# Altium schematic symbol library Connectors.SchLib: 55 symbols
Pins are listed as number, name and electrical type; pins without a type are passive.

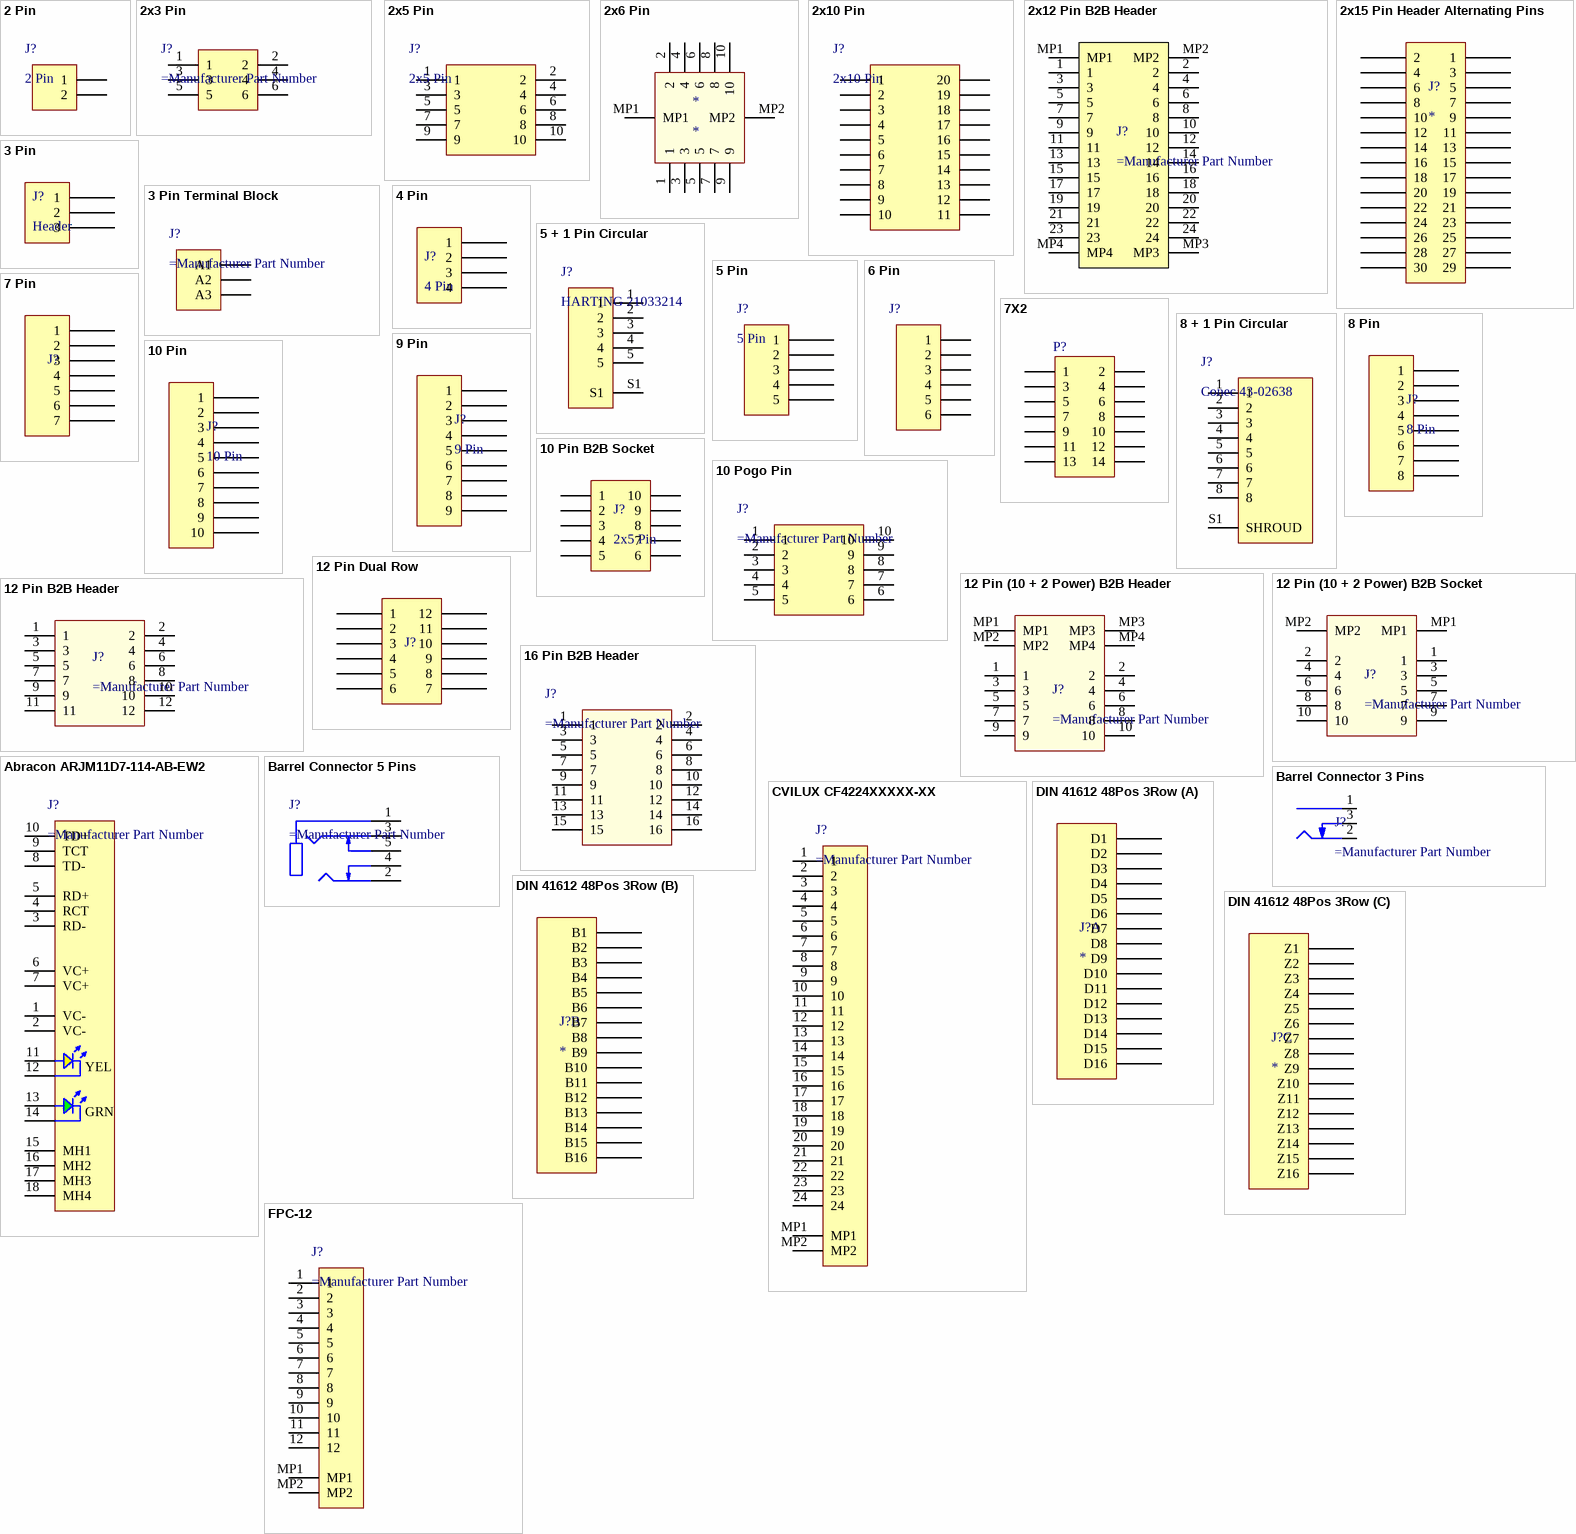
[diagram p0: symbols 2 Pin to FPC-12]

## 2 Pin
designator J?
footprint TE 282834-2
footprint JST B2B-PH-K
footprint TE 4DB-P108-02 (Assembly, Dual Barrier 4DB P108)
footprint TE NC6-P108-02
footprint FCI 06-381-2PIN (FCI Pluggable Terminal Block)
footprint JST XH B2B-XH-A
footprint MOLEX KK 0022272021
footprint MOLEX SDA-70553-2PIN (SL Right angle header with latch, 0.100 centres, SDA-70553)
footprint MOLEX SDA-70555-2PIN (SL Right Angle Header W/LAtch & Trip-Pegs 2.54mm Centres)
footprint SAMTEC SSW-102-03-T-S
footprint JST BM02B-PASS-TF (JST PA Series 2mm pitch, top entry connector)
footprint JST SM02B-PASS-TB (JST PA Series 2mm pitch, side entry connector)
footprint JST BM02B-SRSS-TB (1.0mm pitch/Disconnectable Crimp style connector)
footprint JST SM02B-GHS-TB (1.25mm pitch/Disconnectable Crimp style connectors)
footprint JST BM02B-GHS-TBT (JST GH Series 1.25mm pitch, 4 pin top entry connector)
footprint JST BM02B-SRSS-TB (1.0mm pitch/Disconnectable Crimp style connector)
footprint JST BM02B-SURS-TF (1.0mm pitch/Disconnectable Crimp style connector)
footprint JST SM02B-SRSS-TB (1.0mm pitch/Disconnectable Crimp style connector)
footprint JST SM02B-SURS-TF (1.0mm pitch/Disconnectable Crimp style connector)
footprint WURTH 691508110302
footprint HIROSE DF13-2P-1.25H (DF13 Series 1.25mm pitch miniature crimping connector single row)
footprint HIROSE DF13A-2P-1.25H (DF13 Series 1.25mm pitch miniature crimping connector single row)
footprint JST PH-2-THM-RA
pins: 1, 2

## 2x3 Pin
designator J?
footprint CUI TBL009V-254-03
pins: 1, 2, 3, 4, 5, 6

## 2x5 Pin
designator J?
footprint SAMTEC FTSH-105-01-X-DV-K-X
pins: 1, 2, 3, 4, 5, 6, 7, 8, 9, 10

## 2x6 Pin
designator *
pins: 1, 2, 3, 4, 5, 6, 7, 8, 9, 10, MP1, MP2

## 2x10 Pin
designator J?
pins: 1, 2, 3, 4, 5, 6, 7, 8, 9, 10, 11, 12, 13, 14, 15, 16, 17, 18, 19, 20

## 2x12 Pin B2B Header
designator J?
Board to Board Connector
footprint HIROSE BM14B(0.8)-24DS-0.4V(53)
pins: 1, 2, 3, 4, 5, 6, 7, 8, 9, 10, 11, 12, 13, 14, 15, 16, 17, 18, 19, 20, 21, 22, 23, 24, MP1, MP2, MP3, MP4

## 2x15 Pin Header Alternating Pins
designator J?
pins: 1, 2, 3, 4, 5, 6, 7, 8, 9, 10, 11, 12, 13, 14, 15, 16, 17, 18, 19, 20, 21, 22, 23, 24, 25, 26, 27, 28, 29, 30

## 3 Pin
designator J?, comment Header
footprint TE 282834-3
footprint JST B3B-PH-K
footprint TE 4DB-P108-03 (Assembly, Dual Barrier 4DB P108)
footprint TE NC6-P108-03
footprint FCI 06-381-3PIN (FCI Pluggable Terminal Block)
footprint JST XH B3B-XH-A
footprint MOLEX KK 0022272031
footprint SULLINS NPPN031BFCN
footprint MOLEX SDA-70553-3PIN (SL Right Angle Header W/LAtch & Trip-Pegs 2.54mm Centres)
footprint MOLEX SDA-70555-3PIN (SL Right Angle Header W/LAtch & Trip-Pegs 2.54mm Centres)
footprint SAMTEC SSW-103-03-T-S
pins: 1, 2, 3

## 3 Pin Terminal Block
designator J?
footprint Weidmüller 1825650000 (LSF  LSF-SMT 3.50/03/180 3.5)
pins: A1, A2, A3

## 4 Pin
designator J?
footprint Pin Header 4x1 Female 1.27
footprint AVX 00-9159-004-061-916 (PEN ENDED CARD EDGE 4 POS)
pins: 1, 2, 3, 4

## 5 + 1 Pin Circular
designator J?, comment HARTING 21033214
Circular connectors
footprint HARTING 21033214501 (Circular connectors M12)
pins: 1, 2, 3, 4, 5, S1

## 5 Pin
designator J?
footprint FCI 06-381-5PIN (FCI Pluggable Terminal Block)
footprint Pin Header 5x1 Female 1.27
footprint PHOENIX 172882
pins: 1, 2, 3, 4, 5

## 6 Pin
designator J?
footprint FPC-6 (6 way 0.5 pitch FPC Connector)
footprint FCI 06-381-6PIN (FCI Pluggable Terminal Block)
footprint HIROSE DF13-6P-1.25H (DF13 Series 1.25mm pitch miniature crimping connector single row)
footprint HIROSE DF13A-6P-1.25H (DF13 Series 1.25mm pitch miniature crimping connector single row)
footprint JST B6B-PH-K
footprint JST BM06B-PASS-TF (JST PA Series 2mm pitch, top entry connector)
footprint JST BM06B-SRSS-TB (1.0mm pitch/Disconnectable Crimp style connector)
footprint JST SM06B-GHS-TB (1.25mm pitch/Disconnectable Crimp style connectors)
footprint JST SM06B-PASS-TB (JST PA Series 2mm pitch, side entry connector)
footprint JST SM06B-SRSS-TB (1.0mm pitch/Disconnectable Crimp style connector)
footprint JST SM06B-SURS-TF (1.0mm pitch/Disconnectable Crimp style connector)
footprint JST XH B6B-XH-A
footprint MOLEX KK 0022272061
footprint MOLEX SDA-70553-6PIN (SL Right angle header with latch, 0.100 centres, SDA-70553)
footprint MOLEX SDA-70555-6PIN (SL Right Angle Header W/LAtch & Trip-Pegs 2.54mm Centres)
footprint SAMTEC SSW-106-03-T-S
footprint SULLINS NPPN061BFCN
footprint TE 282834-6
footprint WURTH 691508110306
footprint Pin Header 6x1 Female 1.27
footprint Pin Header 6x1 Female 2.54
footprint TE 19542893
pins: 1, 2, 3, 4, 5, 6

## 7 Pin
designator J?
pins: 1, 2, 3, 4, 5, 6, 7

## 7X2
designator P?  (value not drawn)
Header, 7-Pin, Dual row; Satıcı: Digikey; Birim Fiyat: * USD; Depo Kodu: *; Paket: *; Satın Alma Linki: *; Datasheet: *; Value: *
footprint CNC Tech 3220-14-0300-00
pins: 1, 2, 3, 4, 5, 6, 7, 8, 9, 10, 11, 12, 13, 14

## 8 + 1 Pin Circular
designator J?, comment Conec 43-02638
Circular Connector
footprint Conec 43-02638
pins: 1, 2, 3, 4, 5, 6, 7, 8, S1 SHROUD

## 8 Pin
designator J?
footprint FCI 06-381-8PIN (FCI Pluggable Terminal Block)
pins: 1, 2, 3, 4, 5, 6, 7, 8

## 9 Pin
designator J?
pins: 1, 2, 3, 4, 5, 6, 7, 8, 9

## 10 Pin
designator J?
pins: 1, 2, 3, 4, 5, 6, 7, 8, 9, 10

## 10 Pin B2B Socket
designator J?, comment 2x5 Pin
Board to Board Connector
footprint Hirose DF23C-10DS (0.5mm Pitch Low-Profile Board-to-Board/Board-to-FPC Connectors)
pins: 1, 2, 3, 4, 5, 6, 7, 8, 9, 10

## 10 Pogo Pin
designator J?
Connector
footprint Tag-Connect TC2050-IDC (10 pins pogo pin)
pins: 1, 2, 3, 4, 5, 6, 7, 8, 9, 10

## 12 Pin (10 + 2 Power) B2B Header
designator J?
Board to Board Connector
footprint HIROSE BM2410DP
pins: 1, 2, 3, 4, 5, 6, 7, 8, 9, 10, MP1, MP2, MP3, MP4

## 12 Pin (10 + 2 Power) B2B Socket
designator J?
Board to Board Connector
footprint HIROSE BM2410DS
pins: 1, 2, 3, 4, 5, 6, 7, 8, 9, 10, MP1, MP2

## 12 Pin B2B Header
designator J?
Board to Board Connector
footprint MOLEX 0524651271
pins: 1, 2, 3, 4, 5, 6, 7, 8, 9, 10, 11, 12

## 12 Pin Dual Row
designator J?
pins: 1, 2, 3, 4, 5, 6, 7, 8, 9, 10, 11, 12

## 16 Pin B2B Header
designator J?
Board to Board Connector
footprint MOLEX 0524651671
pins: 1, 2, 3, 4, 5, 6, 7, 8, 9, 10, 11, 12, 13, 14, 15, 16

## Abracon ARJM11D7-114-AB-EW2
designator J?
footprint ABRACON ARJM11D7-114-AB-EW2
pins: 1 VC-, 2 VC-, 3 RD-, 4 RCT, 5 RD+, 6 VC+, 7 VC+, 8 TD-, 9 TCT, 10 TD+, 11 LED1_A, 12 LED1_C, 13 LED2_A, 14 LED2_C, 15 MH1, 16 MH2, 17 MH3, 18 MH4
text: YEL; GRN

## Barrel Connector 3 Pins
designator J?
footprint CUI PJ-014D
footprint CUI PJ-014DH-SMT
footprint CUI PJ-040D
footprint CUI PJ-068B-SMT (Mid Mount DC Power Jack)
footprint CUI PJ-069B-SMT (Mid Mount DC Power Jack)
footprint CUI PJ-075-SMT
footprint CUI PJ-102AH (DC Barrel Jack W/ Switch 2.0x5.5)
pins: 1 Centre, 2 Outer, 3 SW

## Barrel Connector 5 Pins
designator J?
3.5 mm, Stereo, Right Angle, Through Hole, Isolated Ground, Audio Jack Connector; MF: CUI Devices; MP: SJ1-3535NG; SnapEDA_Link: https://www.snapeda.com/parts/SJ1-3535NG/CUI%20Devices/view-part/511142/?ref=snap; Value: *; Availability: Unavailable; Price: None; Package: None
footprint CUI SJ1-3535NG
pins: 1, 2, 3, 4, 5

## CVILUX CF4224XXXXX-XX
designator J?
24 Position FFC, FPC Connector Contacts, Top and Bottom 0.020" (0.50mm) Surface Mount, Right Angle
footprint CVILUX CF4224FH0R0
pins: 1, 2, 3, 4, 5, 6, 7, 8, 9, 10, 11, 12, 13, 14, 15, 16, 17, 18, 19, 20, 21, 22, 23, 24, MP1, MP2

## DIN 41612 48Pos 3Row
designator J?
part A pins: D1, D2, D3, D4, D5, D6, D7, D8, D9, D10, D11, D12, D13, D14, D15, D16
part B pins: B1, B2, B3, B4, B5, B6, B7, B8, B9, B10, B11, B12, B13, B14, B15, B16
part C pins: Z1, Z2, Z3, Z4, Z5, Z6, Z7, Z8, Z9, Z10, Z11, Z12, Z13, Z14, Z15, Z16

## FPC-12
designator J?
Connector
footprint HIROSE FH12-12S-1SH
pins: 1, 2, 3, 4, 5, 6, 7, 8, 9, 10, 11, 12, MP1, MP2

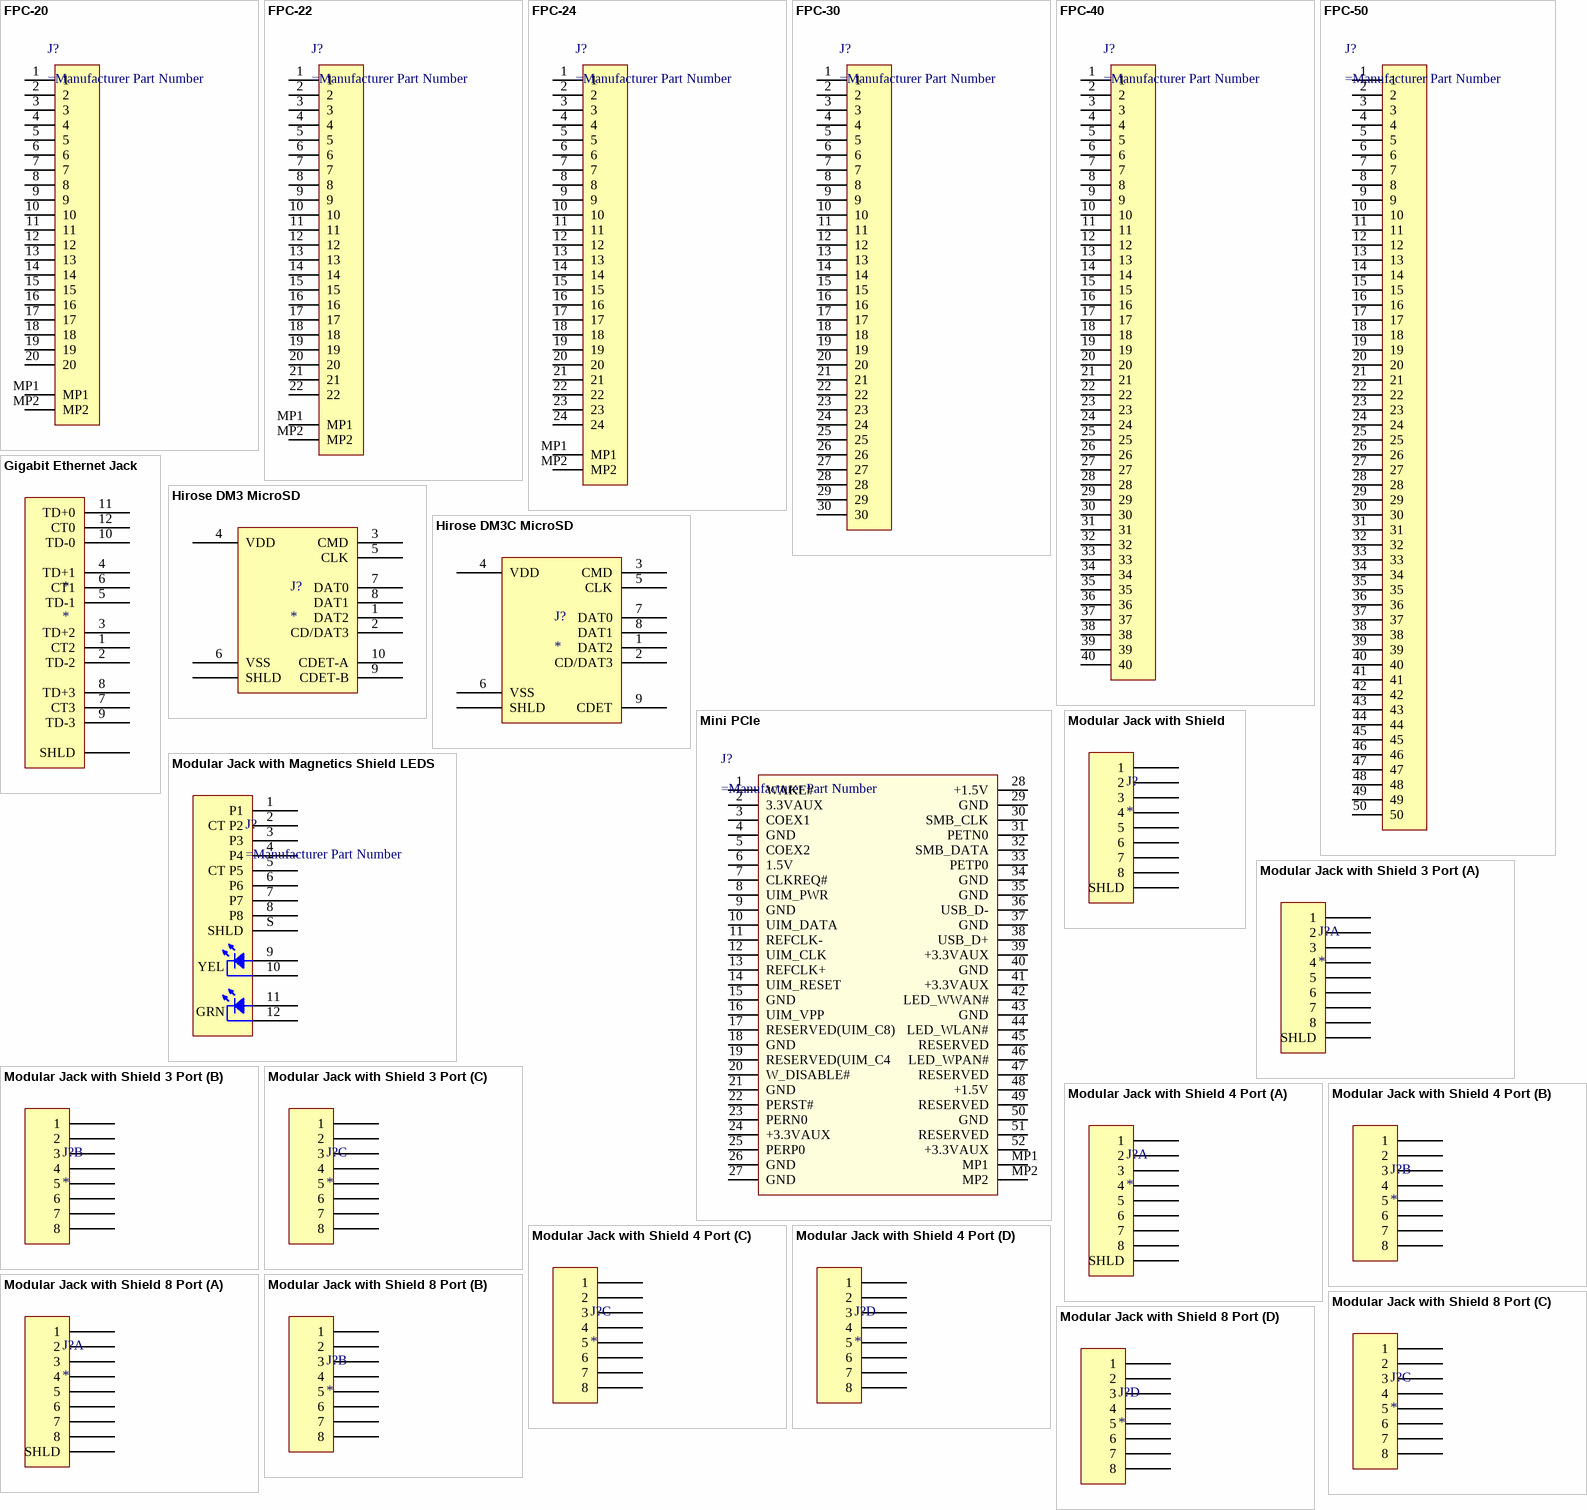
[diagram p1: symbols FPC-20 to Modular Jack with Shield 8 Port]

## FPC-20
designator J?
Connector
footprint fpc-20 (SFV20R2STE1HLF)
pins: 1, 2, 3, 4, 5, 6, 7, 8, 9, 10, 11, 12, 13, 14, 15, 16, 17, 18, 19, 20, MP1, MP2

## FPC-22
designator J?
Connector
footprint fpc-22 (SFV22R-2STE1HLF)
pins: 1, 2, 3, 4, 5, 6, 7, 8, 9, 10, 11, 12, 13, 14, 15, 16, 17, 18, 19, 20, 21, 22, MP1, MP2

## FPC-24
designator J?
Connector
footprint Amphenol SFV24R-1STE1HLF
pins: 1, 2, 3, 4, 5, 6, 7, 8, 9, 10, 11, 12, 13, 14, 15, 16, 17, 18, 19, 20, 21, 22, 23, 24, MP1, MP2

## FPC-30
designator J?
Connector
footprint fpc-30 (30 way 0.5 pitch FPC Connector)
pins: 1, 2, 3, 4, 5, 6, 7, 8, 9, 10, 11, 12, 13, 14, 15, 16, 17, 18, 19, 20, 21, 22, 23, 24, 25, 26, 27, 28, 29, 30

## FPC-40
designator J?
Connector
footprint Amphenol 62684-401100ALF (40 way 0.5 pitch FPC Connector)
pins: 1, 2, 3, 4, 5, 6, 7, 8, 9, 10, 11, 12, 13, 14, 15, 16, 17, 18, 19, 20, 21, 22, 23, 24, 25, 26, 27, 28, 29, 30, 31, 32, 33, 34, 35, 36, 37, 38, 39, 40

## FPC-50
designator J?
Connector
footprint Amphenol 62684-501100ALF (50 way 0.5 pitch FPC Connector)
pins: 1, 2, 3, 4, 5, 6, 7, 8, 9, 10, 11, 12, 13, 14, 15, 16, 17, 18, 19, 20, 21, 22, 23, 24, 25, 26, 27, 28, 29, 30, 31, 32, 33, 34, 35, 36, 37, 38, 39, 40, 41, 42, 43, 44, 45, 46, 47, 48, 49, 50

## Gigabit Ethernet Jack
designator *
pins: 1 CT2, 2 TD-2, 3 TD+2, 4 TD+1, 5 TD-1, 6 CT1, 7 CT3, 8 TD+3, 9 TD-3, 10 TD-0, 11 TD+0, 12 CT0, S SHLD

## Hirose DM3 MicroSD
designator J?
pins: 1 DAT2, 2 CD/DAT3, 3 CMD, 4 VDD, 5 CLK, 6 VSS, 7 DAT0, 8 DAT1, 9 CDET-B, 10 CDET-A, S SHLD

## Hirose DM3C MicroSD
designator J?
pins: 1 DAT2, 2 CD/DAT3, 3 CMD, 4 VDD, 5 CLK, 6 VSS, 7 DAT0, 8 DAT1, 9 CDET, S SHLD

## Mini PCIe
designator J?
footprint TE 1775862-2 (PCI-E MINI CARD CONNECTOR)
footprint TE 2041262-1 (Mini PCI Express & mSATA Connector)
pins: 1 WAKE#, 2 3.3VAUX, 3 COEX1, 4 GND, 5 COEX2, 6 1.5V, 7 CLKREQ#, 8 UIM_PWR, 9 GND, 10 UIM_DATA, 11 REFCLK-, 12 UIM_CLK, 13 REFCLK+, 14 UIM_RESET, 15 GND, 16 UIM_VPP, 17 RESERVED(UIM_C8), 18 GND, 19 RESERVED(UIM_C4, 20 W_DISABLE#, 21 GND, 22 PERST#, 23 PERN0, 24 +3.3VAUX, 25 PERP0, 26 GND, 27 GND, 28 +1.5V, 29 GND, 30 SMB_CLK, 31 PETN0, 32 SMB_DATA, 33 PETP0, 34 GND, 35 GND, 36 USB_D-, 37 GND, 38 USB_D+, 39 +3.3VAUX, 40 GND, 41 +3.3VAUX, 42 LED_WWAN#, 43 GND, 44 LED_WLAN#, 45 RESERVED, 46 LED_WPAN#, 47 RESERVED, 48 +1.5V, 49 RESERVED, 50 GND, 51 RESERVED, 52 +3.3VAUX, MP1, MP2

## Modular Jack with Magnetics Shield LEDS
designator J?
footprint Abracon ARJC02-111008B
footprint HANRUN HR961160C (1x1 Port Tab-UP Surface Mount RJ45 Connector)
footprint WIZNET J1B1211CCD (SINGLE RJ45 CONNECTOR CONNECTOR CONNECTOR CONNECTOR MODULE WITH 10/100 BASE-TX BASE-TX BASE-TX BASE-TX  MAGNETICS MAGNETICS MAGNETICS MAGNETICS AND LEDS)
pins: 1 P1, 2 CT P2, 3 P3, 4 P4, 5 CT P5, 6 P6, 7 P7, 8 P8, 9 P9, 10 P10, 11 P11, 12 P12, S SHLD
text: YEL; GRN

## Modular Jack with Shield
designator J?
footprint Amphenol RJLSE4238101T (Surface mount modular jack with shield)
pins: 1, 2, 3, 4, 5, 6, 7, 8, S SHLD

## Modular Jack with Shield 3 Port
designator J?
part A pins: A1 1, A2 2, A3 3, A4 4, A5 5, A6 6, A7 7, A8 8, S SHLD
part B pins: B1 1, B2 2, B3 3, B4 4, B5 5, B6 6, B7 7, B8 8
part C pins: C1 1, C2 2, C3 3, C4 4, C5 5, C6 6, C7 7, C8 8

## Modular Jack with Shield 4 Port
designator J?
part A pins: A1 1, A2 2, A3 3, A4 4, A5 5, A6 6, A7 7, A8 8, S SHLD
part B pins: B1 1, B2 2, B3 3, B4 4, B5 5, B6 6, B7 7, B8 8
part C pins: C1 1, C2 2, C3 3, C4 4, C5 5, C6 6, C7 7, C8 8
part D pins: D1 1, D2 2, D3 3, D4 4, D5 5, D6 6, D7 7, D8 8

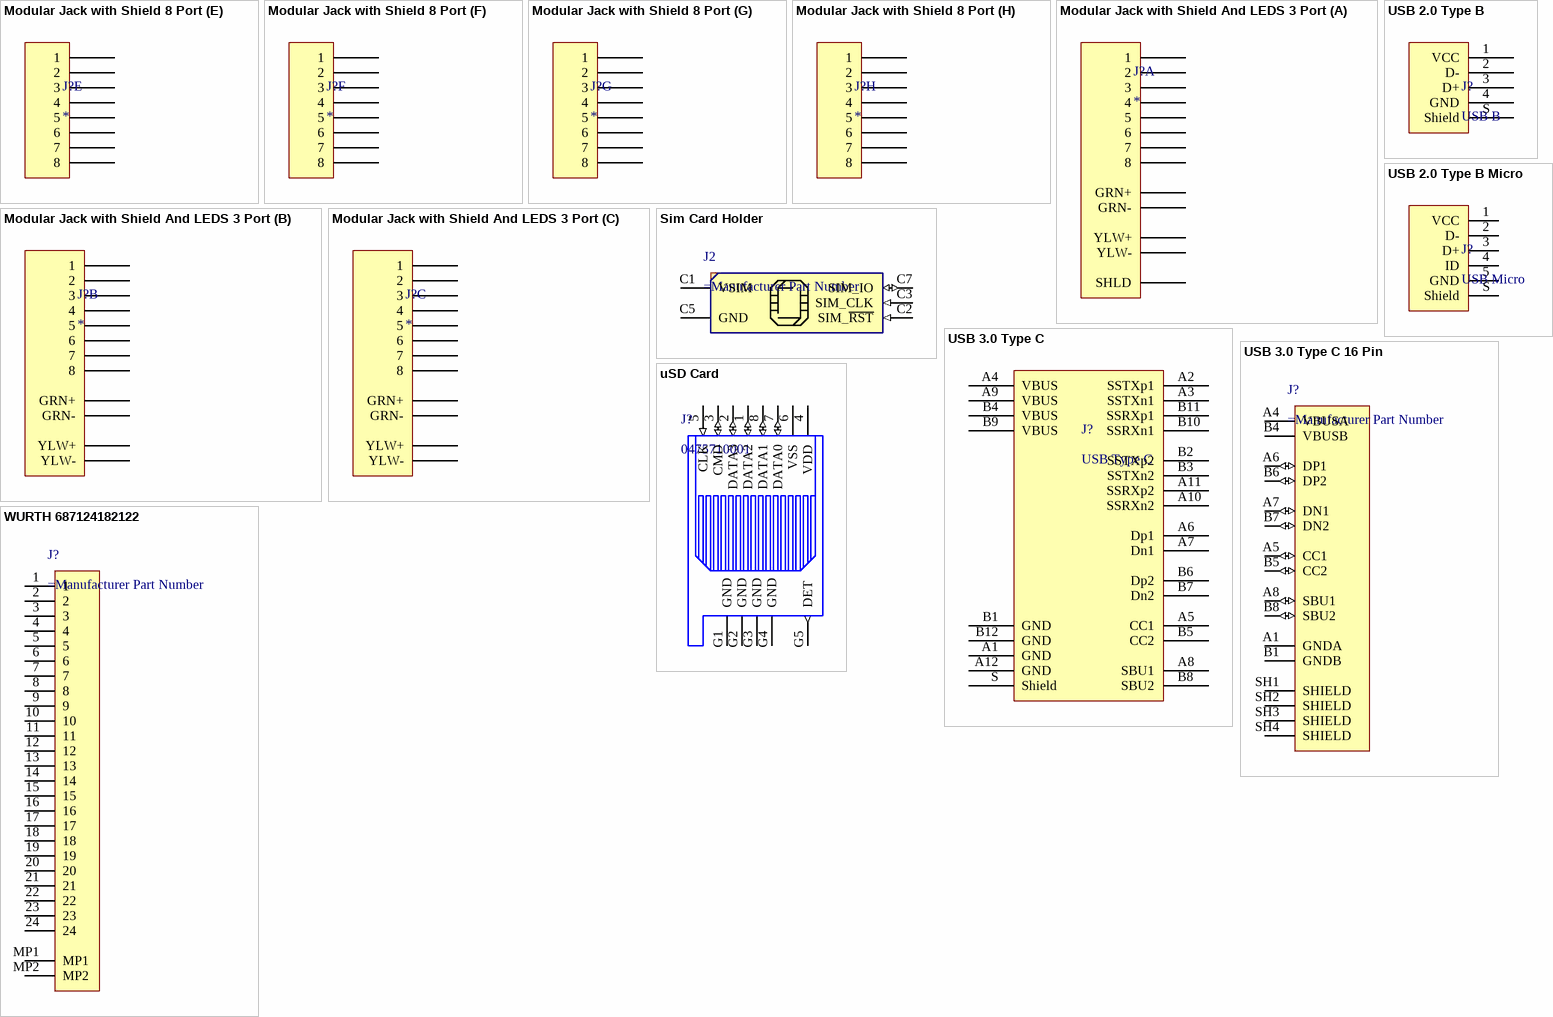
[diagram p2: symbols Modular Jack with Shield 8 Port to WURTH 687124182122]

## Modular Jack with Shield 8 Port
designator J?
part A pins: A1 1, A2 2, A3 3, A4 4, A5 5, A6 6, A7 7, A8 8, S SHLD
part B pins: B1 1, B2 2, B3 3, B4 4, B5 5, B6 6, B7 7, B8 8
part C pins: C1 1, C2 2, C3 3, C4 4, C5 5, C6 6, C7 7, C8 8
part D pins: D1 1, D2 2, D3 3, D4 4, D5 5, D6 6, D7 7, D8 8
part E pins: E1 1, E2 2, E3 3, E4 4, E5 5, E6 6, E7 7, E8 8
part F pins: F1 1, F2 2, F3 3, F4 4, F5 5, F6 6, F7 7, F8 8
part G pins: G1 1, G2 2, G3 3, G4 4, G5 5, G6 6, G7 7, G8 8
part H pins: H1 1, H2 2, H3 3, H4 4, H5 5, H6 6, H7 7, H8 8

## Modular Jack with Shield And LEDS 3 Port
designator J?
part A pins: A1 1, A2 2, A3 3, A4 4, A5 5, A6 6, A7 7, A8 8, A9 GRN-, A10 GRN+, A11 YLW-, A12 YLW+, S SHLD
part B pins: B1 1, B2 2, B3 3, B4 4, B5 5, B6 6, B7 7, B8 8, B9 GRN-, B10 GRN+, B11 YLW-, B12 YLW+
part C pins: C1 1, C2 2, C3 3, C4 4, C5 5, C6 6, C7 7, C8 8, C9 GRN-, C10 GRN+, C11 YLW-, C12 YLW+

## Sim Card Holder
designator J2
footprint SIM8051-6-0-14-00-X-revD (Nano SIM Card Connector, Push-Pull Type, 6 Pin, SMT, Profile 1.35mm)
footprint Molex, LLC 0473880001 SIM HOLDER
pins: C1 VSIM (power), C2 SIM_~{RST} (in), C3 SIM_CLK (in), C5 GND (power), C7 SIM_IO (io)

## USB 2.0 Type B
designator J?, comment USB B
footprint FCI USB 10033526-N3212LF (USB 2.0 Type B Mini)
footprint FCI USB 61729-0010BLF
footprint FCI USB 61729-1011BLF
footprint Harwin USB M701-370442
pins: 1 VCC, 2 D-, 3 D+, 4 GND, S Shield

## USB 2.0 Type B Micro
designator J?, comment USB Micro
footprint FCI USB 10118193-0001LF (USB 2.0 Type B Micro)
footprint GCT USB3131-30-0230-A
footprint MOLEX 105133-0011
pins: 1 VCC, 2 D-, 3 D+, 4 ID, 5 GND, S Shield

## USB 3.0 Type C
designator J?, comment USB Type C
footprint TE USB-C 2129691-1
pins: A1 GND, A2 SSTXp1, A3 SSTXn1, A4 VBUS, A5 CC1, A6 Dp1, A7 Dn1, A8 SBU1, A9 VBUS, A10 SSRXn2, A11 SSRXp2, A12 GND, B1 GND, B2 SSTXp2, B3 SSTXn2, B4 VBUS, B5 CC2, B6 Dp2, B7 Dn2, B8 SBU2, B9 VBUS, B10 SSRXn1, B11 SSRXp1, B12 GND, S Shield

## USB 3.0 Type C 16 Pin
designator J?
USB-C (USB TYPE-C) USB 2.0 Receptacle Connector 24 (16+8 Dummy)
footprint GCT USB4215-03-A
pins: A1 GNDA (power), A4 VBUSA (power), A5 CC1 (io), A6 DP1 (io), A7 DN1 (io), A8 SBU1 (io), B1 GNDB (power), B4 VBUSB (power), B5 CC2 (io), B6 DP2 (io), B7 DN2 (io), B8 SBU2 (io), SH1 SHIELD, SH2 SHIELD, SH3 SHIELD, SH4 SHIELD

## uSD Card
designator J?, comment 0475710001
Connector; Manufacturer: Molex; Datasheet Link: https://www.molex.com/pdm_docs/sd/475710001_sd.pdf; Height: 2.3mm; Manufacturer Part Number: 0475710001
footprint Molex - 0475710001 (9 (8 + 1) Position Card Connector Secure Digital - microSD™ Surface Mount, Right Angle Gold)
pins: 1 DATA2 (io), 2 DATA3 (io), 3 CMD (io), 4 VDD (power), 5 CLK (in), 6 VSS (power), 7 DATA0 (io), 8 DATA1 (io), G1 GND (power), G2 GND (power), G3 GND (power), G4 GND (power), G5 DET (out)

## WURTH 687124182122
designator J?
24 Position FFC, FPC Connector Contacts, Top and Bottom 0.020" (0.50mm) Surface Mount, Right Angle
footprint WURTH 687124182122
pins: 1, 2, 3, 4, 5, 6, 7, 8, 9, 10, 11, 12, 13, 14, 15, 16, 17, 18, 19, 20, 21, 22, 23, 24, MP1, MP2